# Altium footprint library Gavin.PcbLib: 5 footprints
Each footprint in its own frame and in the unit in brackets; x right, y up, seen from the top. Pads: shape width x height; smd on the part's side, far side on the other; paste and mask are expansions set on the pad; w line width, h text height; cw(c..) or ccw(c..) is an arc to the next point about the centre after c.
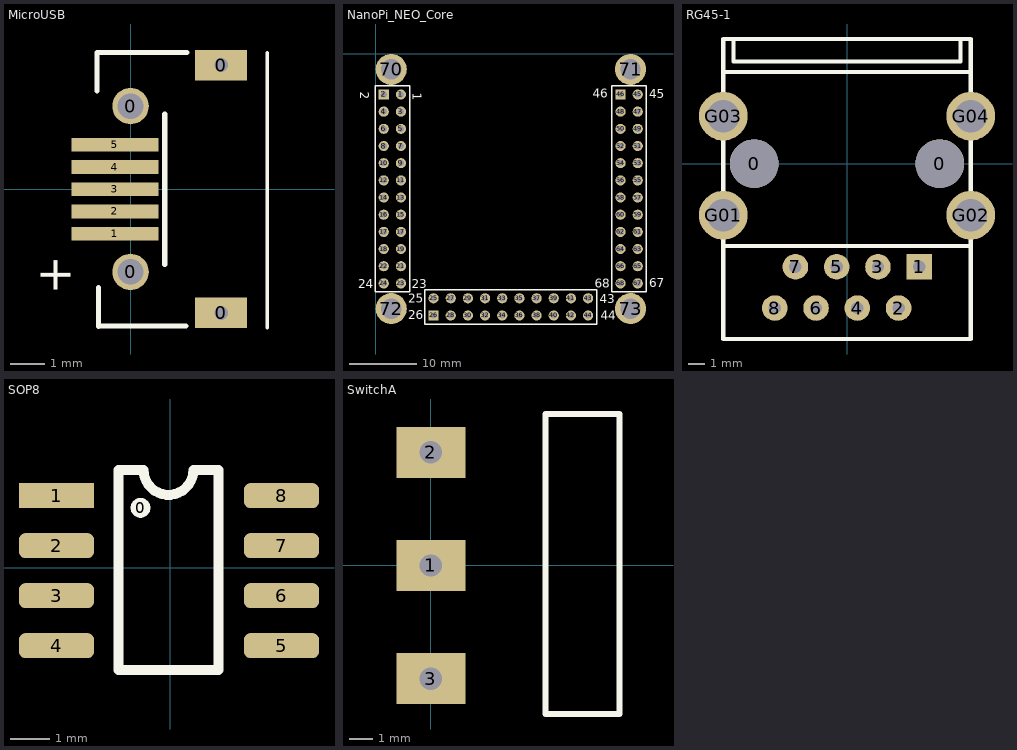
[diagram p0: the footprints below, top view; thin cyan lines are the x and y axes]

## MicroUSB [mm]
pads (9):
  round 1.067 hole 0.75 unplated: 0(0,-2.425) 0(0,2.425)
  rect 1.524x0.889 hole 0.4 square: 0(2.65,-3.625) 0(2.65,3.625)
  rect 2.54x0.4 smd: 1(-0.457,-1.307) 2(-0.457,-0.657) 3(-0.457,-0.007) 4(-0.457,0.643) 5(-0.457,1.293)
Top Overlay:
  lines w0.1: 4.003,-4.057 4.003,3.993
  lines w0.152: -0.978,2.87 -0.978,3.996 ; -0.94,-4.013 -0.94,-2.887 ; -0.914,-4.007 1.619,-4.007 ; -0.914,3.993 1.653,3.993 ; 1.003,-2.207 1.003,2.193
  text "+" at -1.753,-3.099 h1

## NanoPi_NEO_Core [mm]
pads (72):
  round 1.5 hole 0.9: 1(3.734,-6.02) 3(3.734,-8.56) 4(1.194,-8.56) 5(3.734,-11.1) 6(1.194,-11.1) 7(3.734,-13.64) 8(1.194,-13.64) 9(3.734,-16.18) 10(1.194,-16.18) 11(3.734,-18.72) 12(1.194,-18.72) 13(3.734,-21.26) 14(1.194,-21.26) 15(3.734,-23.8) 16(1.194,-23.8) 17(1.194,-26.34) 17(3.734,-26.34) 18(1.194,-28.88) 19(3.734,-28.88) 21(3.734,-31.42) 22(1.194,-31.42) 23(3.734,-33.96) 24(1.194,-33.96) 25(8.56,-36.17) 27(11.1,-36.17) 28(11.1,-38.71) 29(13.64,-36.17) 30(13.64,-38.71) 31(16.18,-36.17) 32(16.18,-38.71) 33(18.72,-36.17) 34(18.72,-38.71) 35(21.26,-36.17) 36(21.26,-38.71) 37(23.8,-36.17) 38(23.8,-38.71) 39(26.34,-36.17) 40(26.34,-38.71) 41(28.88,-36.17) 42(28.88,-38.71) 43(31.42,-36.17) 44(31.42,-38.71) 45(38.76,-6.02) 47(38.76,-8.56) 48(36.22,-8.56) 49(38.76,-11.1) 50(36.22,-11.1) 51(38.76,-13.64) 52(36.22,-13.64) 53(38.76,-16.18) 54(36.22,-16.18) 55(38.76,-18.72) 56(36.22,-18.72) 57(38.76,-21.26) 58(36.22,-21.26) 59(38.76,-23.8) 60(36.22,-23.8) 61(38.76,-26.34) 62(36.22,-26.34) 63(38.76,-28.88) 64(36.22,-28.88) 65(38.76,-31.42) 66(36.22,-31.42) 67(38.76,-33.96) 68(36.22,-33.96)
  rect 1.5x1.5 hole 0.9: 2(1.194,-6.02) 26(8.56,-38.71) 46(36.22,-6.02)
  round 4.6 hole 3: 70(2.3,-2.3) 71(37.7,-2.3) 72(2.3,-37.7) 73(37.7,-37.7)
Top Overlay:
  lines w0.2: -0.076,-35.23 5.004,-35.23 5.004,-4.75 -0.076,-4.75 -0.076,-35.23 ; 7.29,-39.98 9.195,-39.98 32.69,-39.98 32.69,-34.9 9.195,-34.9 7.29,-34.9 7.29,-39.98 ; 34.95,-35.23 34.95,-4.75 40.03,-4.75 40.03,-35.23 34.95,-35.23
  text "67" at 40.437,-34.544 h1.27
  text "68" at 32.385,-34.595 h1.27
  text "45" at 40.488,-6.553 h1.27
  text "46" at 32.131,-6.477 h1.27
  text "43" at 33.122,-36.881 h1.27
  text "44" at 33.274,-39.37 h1.27
  text "26" at 4.801,-39.268 h1.27
  text "25" at 4.801,-36.83 h1.27
  text "2" at -2.286,-5.639 h1.27
  text "1" at 5.461,-5.766 h1.27
  text "24" at -2.616,-34.696 h1.27
  text "23" at 5.334,-34.696 h1.27

## RG45-1 [mil]
pads (14):
  round 118.11 hole 118.11: 0(-225,0) 0(225,0)
  rect 62x62 hole 30: 1(175,-250)
  round 62 hole 30: 2(125,-350) 3(75,-250) 4(25,-350) 5(-25,-250) 6(-75,-350) 7(-125,-250) 8(-175,-350)
  round 118.11 hole 78.74: G01(-300,-125) G02(300,-125) G03(-300,115) G04(300,115)
Top Overlay:
  lines w10: -300,-200 300,-200 ; -300,222.24 300,222.24 ; -275,297.24 -275,247.24 275,247.24 275,297.24 ; -300,-425 300,-425 300,250 300,302.18 -300,302.18 -300,250 -300,-425
3D body "RJ45-8P-Pipe-Cat6.step": height 572.83, standoff -141.73, extent -348,-543.44 344.91,401.44

## SOP8 [mil]
pads (9):
  round 20 on Top Overlay: 0(-29.5,59.8)
  rect 75x25 smd: 1(-113.5,72)
  rrect50% 75x25 smd: 2(-113.5,22) 3(-113.5,-28) 4(-113.5,-78) 5(111.5,-78) 6(111.5,-28) 7(111.5,22) 8(111.5,72)
Top Overlay:
  lines w10: -29.5,97.8 -51.5,97.8 -51.5,-102.2 48.5,-102.2 48.5,97.8 23.5,97.8 cw(c-1.5,97.8) -26.5,97.8
3D body "SO-8.STEP": height -15, standoff -81.93, extent -119.1,-99.46 117.12,93.46

## SwitchA [mil]
pads (3):
  rect 115x85 hole 37.4 square: 1(0,0) 2(0,188.98) 3(0,-188.98)
Top Overlay:
  lines w10: 191.73,252 191.73,-248 314.96,-248 314.96,252 ; 191.73,253 314.96,253